# Altium schematic symbol library USB_2.0.Schlib: 1 symbol
Pins are listed as number, name and electrical type; pins without a type are passive.

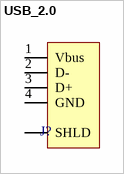
[diagram p0: symbol USB_2.0]

## USB_2.0
designator J?  (value not drawn)
pins: 1 Vbus, 2 D-, 3 D+, 4 GND, S SHLD